# Altium schematic symbol library RF Modules.SchLib: 5 symbols
Pins are listed as number, name and electrical type; pins without a type are passive.

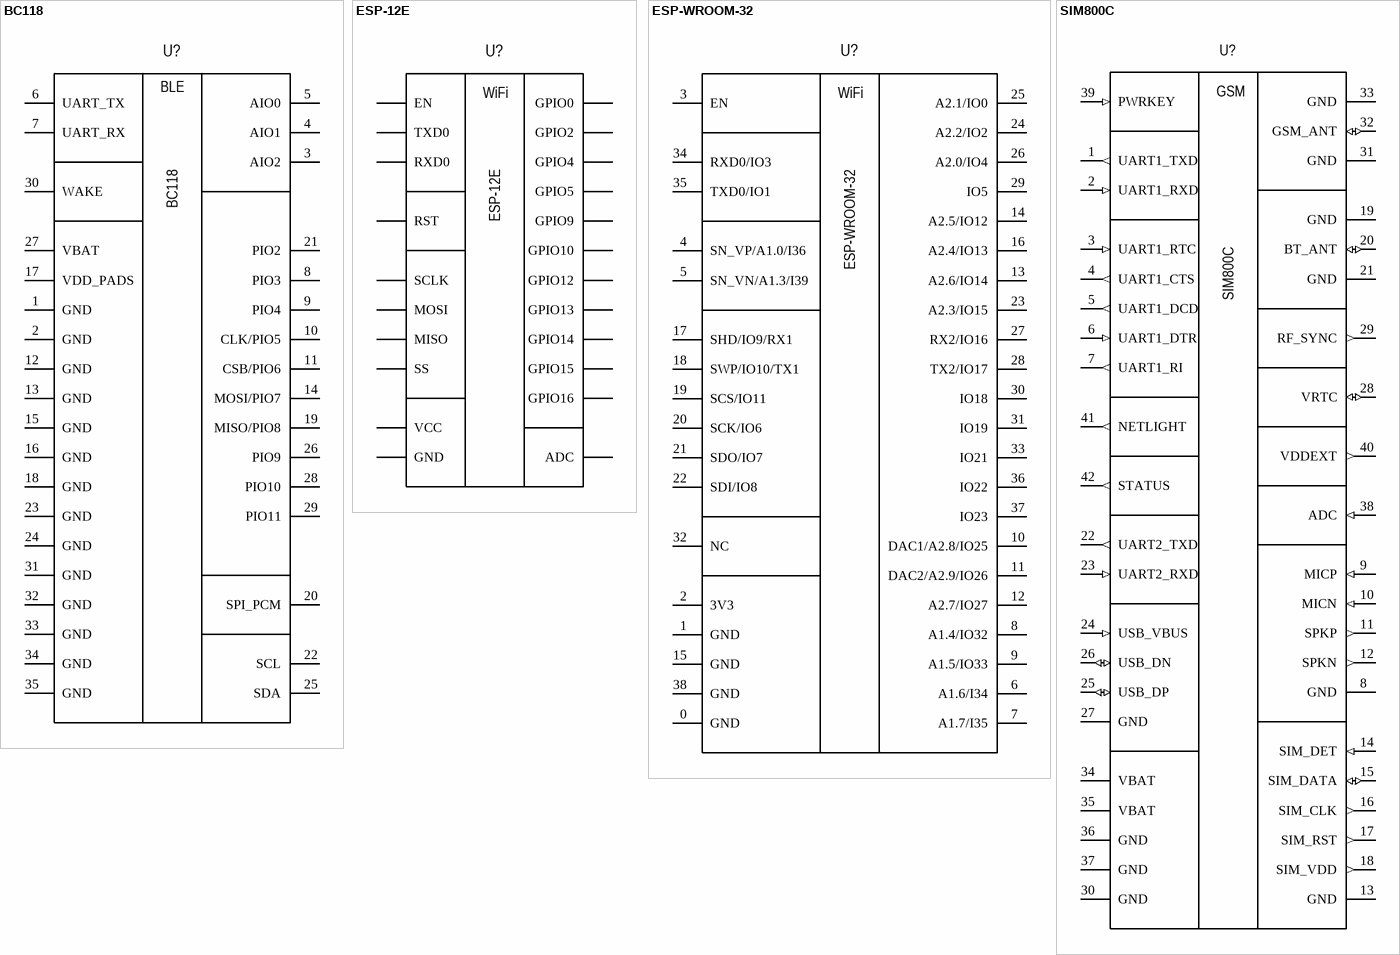
[diagram p0: symbols BC118 to SIM800C]

## BC118
designator U?
Bluetooth LE Module BC118 based on CSR1010; Manufacturer: BlueCreation; Group: Wireless; Package: BC118; Part name: BC118
footprint BC118
pins: 1 GND, 2 GND, 3 AIO2, 4 AIO1, 5 AIO0, 6 UART_TX, 7 UART_RX, 8 PIO3, 9 PIO4, 10 CLK/PIO5, 11 CSB/PIO6, 12 GND, 13 GND, 14 MOSI/PIO7, 15 GND, 16 GND, 17 VDD_PADS, 18 GND, 19 MISO/PIO8, 20 SPI_PCM, 21 PIO2, 22 SCL, 23 GND, 24 GND, 25 SDA, 26 PIO9, 27 VBAT, 28 PIO10, 29 PIO11, 30 WAKE, 31 GND, 32 GND, 33 GND, 34 GND, 35 GND
text: BLE

## ESP-12E
designator U?
WiFi Module based on ESP8266; Manufacturer: Espressif; Group: Wireless; Package: ESP-12E; Part name: ESP-12E
footprint ESP-12E
pins: ADC, CS0 SS, EN, GND, GPIO0, GPIO2, GPIO4, GPIO5, GPIO9, GPIO10, GPIO12, GPIO13, GPIO14, GPIO15, GPIO16, MISO, MOSI, RST, RXD0, SCLK, TXD0, VCC
text: WiFi

## ESP-WROOM-32
designator U?
WiFi/Bluetooth Module based on ESP32; Manufacturer: Espressif; Group: Wireless; Package: ESP-WROOM-32; Part name: ESP-WROOM-32
footprint ESP-WROOM-32
pins: 0 GND, 1 GND, 2 3V3, 3 EN, 4 SN_VP/A1.0/I36, 5 SN_VN/A1.3/I39, 6 A1.6/I34, 7 A1.7/I35, 8 A1.4/IO32, 9 A1.5/IO33, 10 DAC1/A2.8/IO25, 11 DAC2/A2.9/IO26, 12 A2.7/IO27, 13 A2.6/IO14, 14 A2.5/IO12, 15 GND, 16 A2.4/IO13, 17 SHD/IO9/RX1, 18 SWP/IO10/TX1, 19 SCS/IO11, 20 SCK/IO6, 21 SDO/IO7, 22 SDI/IO8, 23 A2.3/IO15, 24 A2.2/IO2, 25 A2.1/IO0, 26 A2.0/IO4, 27 RX2/IO16, 28 TX2/IO17, 29 IO5, 30 IO18, 31 IO19, 32 NC, 33 IO21, 34 RXD0/IO3, 35 TXD0/IO1, 36 IO22, 37 IO23, 38 GND
text: WiFi

## SIM800C
designator U?
GSM/GPRS module; Manufacturer: SIMCOM; Group: Wireless; Package: SIM800C; Part name: SIM800C
footprint SIM800C
pins: 1 UART1_TXD (out), 2 UART1_RXD (in), 3 UART1_RTC (in), 4 UART1_CTS (out), 5 UART1_DCD (out), 6 UART1_DTR (in), 7 UART1_RI (out), 8 GND, 9 MICP (in), 10 MICN (in), 11 SPKP (out), 12 SPKN (out), 13 GND, 14 SIM_DET (in), 15 SIM_DATA (io), 16 SIM_CLK (out), 17 SIM_RST (out), 18 SIM_VDD (out), 19 GND, 20 BT_ANT (io), 21 GND, 22 UART2_TXD (out), 23 UART2_RXD (in), 24 USB_VBUS (in), 25 USB_DP (io), 26 USB_DN (io), 27 GND, 28 VRTC (io), 29 RF_SYNC (out), 30 GND, 31 GND, 32 GSM_ANT (io), 33 GND, 34 VBAT (power), 35 VBAT (power), 36 GND, 37 GND, 38 ADC (in), 39 PWRKEY (in), 40 VDDEXT (out), 41 NETLIGHT (out), 42 STATUS (out)
text: GSM

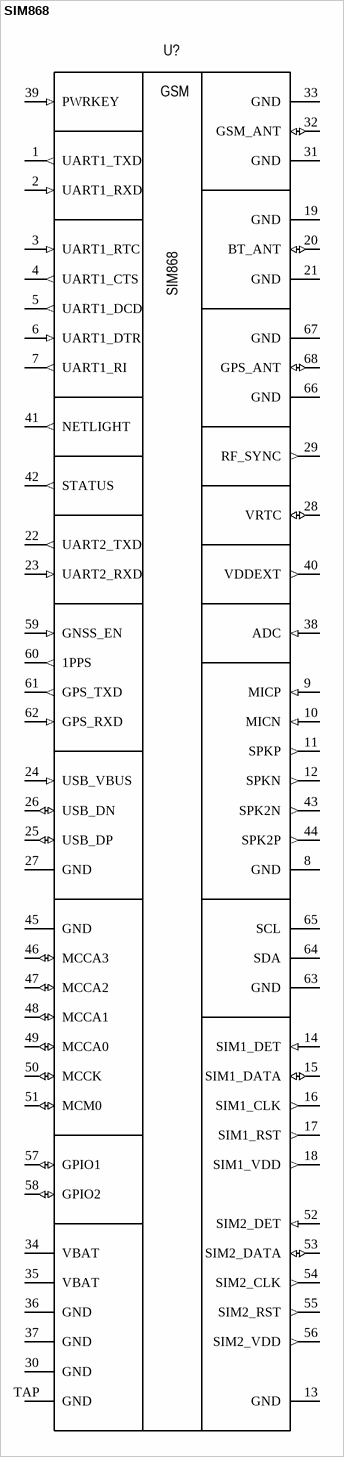
[diagram p1: symbol SIM868]

## SIM868
designator U?
GSM/GPRS/GNSS module; Manufacturer: SIMCOM; Group: Wireless; Package: SIM868; Part name: SIM868
footprint SIM868
pins: 1 UART1_TXD (out), 2 UART1_RXD (in), 3 UART1_RTC (in), 4 UART1_CTS (out), 5 UART1_DCD (out), 6 UART1_DTR (in), 7 UART1_RI (out), 8 GND, 9 MICP (in), 10 MICN (in), 11 SPKP (out), 12 SPKN (out), 13 GND, 14 SIM1_DET (in), 15 SIM1_DATA (io), 16 SIM1_CLK (out), 17 SIM1_RST (out), 18 SIM1_VDD (out), 19 GND, 20 BT_ANT (io), 21 GND, 22 UART2_TXD (out), 23 UART2_RXD (in), 24 USB_VBUS (in), 25 USB_DP (io), 26 USB_DN (io), 27 GND, 28 VRTC (io), 29 RF_SYNC (out), 30 GND, 31 GND, 32 GSM_ANT (io), 33 GND, 34 VBAT (power), 35 VBAT (power), 36 GND, 37 GND, 38 ADC (in), 39 PWRKEY (in), 40 VDDEXT (out), 41 NETLIGHT (out), 42 STATUS (out), 43 SPK2N (out), 44 SPK2P (out), 45 GND, 46 MCCA3 (io), 47 MCCA2 (io), 48 MCCA1 (io), 49 MCCA0 (io), 50 MCCK (io), 51 MCM0 (io), 52 SIM2_DET (in), 53 SIM2_DATA (io), 54 SIM2_CLK (out), 55 SIM2_RST (out), 56 SIM2_VDD (out), 57 GPIO1 (io), 58 GPIO2 (io), 59 GNSS_EN (in), 60 1PPS (out), 61 GPS_TXD (out), 62 GPS_RXD (in), 63 GND, 64 SDA, 65 SCL, 66 GND, 67 GND, 68 GPS_ANT (io), TAP GND
text: GSM